# Altium schematic symbol library WE-PD2.SchLib: 114 symbols (part 1 of 2)
Pins are listed as number, name and electrical type; pins without a type are passive.

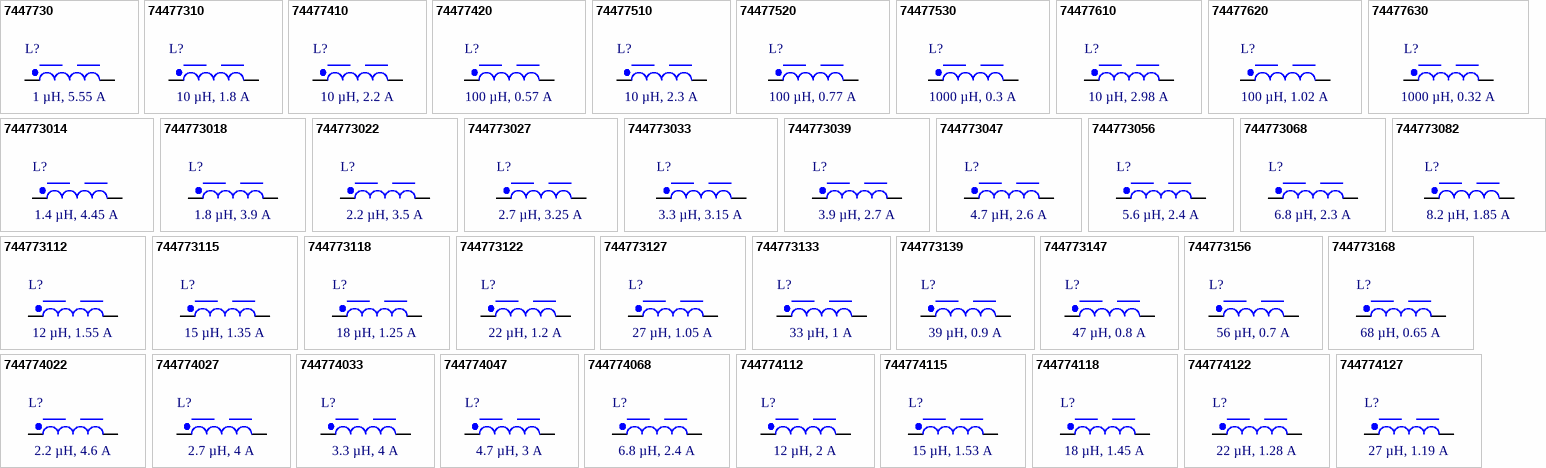
[diagram p0: symbols 7447730 to 744774127]

## 7447730
designator L?, comment 1 µH, 5.55 A
WE-PD2 SMT Power Inductor, size 4532, 1 µH, 5.55 A, 0.014 Ω; Manufacturer Part Number: 7447730; Manufacturer: Wurth Elektronik; Case/Size Code: 4532; DC Resistance Max: 0.014 Ω; Inductance: 1 µH; Rated Current: 5.55 A; Saturation Current @ 10%: 5.72 A; Saturation Current @ 30%: 6.6 A; Self Resonant Frequency: 110 MHz; Category: Power Inductors; Match Code: WE-PD2; ComponentLink1Description: Website Link; ComponentLink1URL: https://www.we-online.com/redexpert/article/7447730?ad; ComponentLink2Description: Datasheet Link; ComponentLink2URL: https://www.we-online.com/redexpert/spec/7447730?ad; Mount: Surface Mount; Min Operating Temperature: -40 °C; Max Operating Temperature: 125 °C; Packaging: Tape and Reel; Length: 4.5 mm; Width: 4 mm; Height: 3.2 mm
footprint WE-PD2_4532
simulation model 4532_7447730_1u
pins: 1, 2

## 74477310
designator L?, comment 10 µH, 1.8 A
WE-PD2 SMT Power Inductor, size 4532, 10 µH, 1.8 A, 0.118 Ω; Manufacturer Part Number: 74477310; Manufacturer: Wurth Elektronik; Case/Size Code: 4532; DC Resistance Max: 0.118 Ω; Inductance: 10 µH; Rated Current: 1.8 A; Saturation Current @ 10%: 1.74 A; Saturation Current @ 30%: 2 A; Self Resonant Frequency: 37 MHz; Category: Power Inductors; Match Code: WE-PD2; ComponentLink1Description: Website Link; ComponentLink1URL: https://www.we-online.com/redexpert/article/74477310?ad; ComponentLink2Description: Datasheet Link; ComponentLink2URL: https://www.we-online.com/redexpert/spec/74477310?ad; Mount: Surface Mount; Min Operating Temperature: -40 °C; Max Operating Temperature: 125 °C; Packaging: Tape and Reel; Length: 4.5 mm; Width: 4 mm; Height: 3.2 mm
footprint WE-PD2_4532
simulation model 4532_74477310_10u
pins: 1, 2

## 74477410
designator L?, comment 10 µH, 2.2 A
WE-PD2 SMT Power Inductor, size 5848, 10 µH, 2.2 A, 0.078 Ω; Manufacturer Part Number: 74477410; Manufacturer: Wurth Elektronik; Case/Size Code: 5848; DC Resistance Max: 0.078 Ω; Inductance: 10 µH; Rated Current: 2.2 A; Saturation Current @ 10%: 2.5 A; Self Resonant Frequency: 26 MHz; Category: Power Inductors; Match Code: WE-PD2; ComponentLink1Description: Website Link; ComponentLink1URL: https://www.we-online.com/redexpert/article/74477410?ad; ComponentLink2Description: Datasheet Link; ComponentLink2URL: https://www.we-online.com/redexpert/spec/74477410?ad; Mount: Surface Mount; Min Operating Temperature: -40 °C; Max Operating Temperature: 125 °C; Packaging: Tape and Reel; Length: 5.8 mm; Width: 5.2 mm; Height: 4.5 mm
footprint WE-PD2_5848
simulation model 5848_74477410_10u
pins: 1, 2

## 74477420
designator L?, comment 100 µH, 0.57 A
WE-PD2 SMT Power Inductor, size 5848, 100 µH, 0.57 A, 0.51 Ω; Manufacturer Part Number: 74477420; Manufacturer: Wurth Elektronik; Case/Size Code: 5848; DC Resistance Max: 0.51 Ω; Inductance: 100 µH; Rated Current: 0.57 A; Saturation Current @ 10%: 0.68 A; Self Resonant Frequency: 7.5 MHz; Category: Power Inductors; Match Code: WE-PD2; ComponentLink1Description: Website Link; ComponentLink1URL: https://www.we-online.com/redexpert/article/74477420?ad; ComponentLink2Description: Datasheet Link; ComponentLink2URL: https://www.we-online.com/redexpert/spec/74477420?ad; Mount: Surface Mount; Min Operating Temperature: -40 °C; Max Operating Temperature: 125 °C; Packaging: Tape and Reel; Length: 5.8 mm; Width: 5.2 mm; Height: 4.5 mm
footprint WE-PD2_5848
simulation model 5848_74477420_100u
pins: 1, 2

## 74477510
designator L?, comment 10 µH, 2.3 A
WE-PD2 SMT Power Inductor, size 7850, 10 µH, 2.3 A, 0.044 Ω; Manufacturer Part Number: 74477510; Manufacturer: Wurth Elektronik; Case/Size Code: 7850; DC Resistance Max: 0.044 Ω; Inductance: 10 µH; Rated Current: 2.3 A; Saturation Current @ 10%: 2.95 A; Self Resonant Frequency: 28 MHz; Category: Power Inductors; Match Code: WE-PD2; ComponentLink1Description: Website Link; ComponentLink1URL: https://www.we-online.com/redexpert/article/74477510?ad; ComponentLink2Description: Datasheet Link; ComponentLink2URL: https://www.we-online.com/redexpert/spec/74477510?ad; Mount: Surface Mount; Min Operating Temperature: -40 °C; Max Operating Temperature: 125 °C; Packaging: Tape and Reel; Length: 7.8 mm; Width: 7 mm; Height: 4.95 mm
footprint WE-PD2_7850
simulation model 7850_74477510_10u
pins: 1, 2

## 74477520
designator L?, comment 100 µH, 0.77 A
WE-PD2 SMT Power Inductor, size 7850, 100 µH, 0.77 A, 0.208 Ω; Manufacturer Part Number: 74477520; Manufacturer: Wurth Elektronik; Case/Size Code: 7850; DC Resistance Max: 0.208 Ω; Inductance: 100 µH; Rated Current: 0.77 A; Saturation Current @ 10%: 0.86 A; Self Resonant Frequency: 8 MHz; Category: Power Inductors; Match Code: WE-PD2; ComponentLink1Description: Website Link; ComponentLink1URL: https://www.we-online.com/redexpert/article/74477520?ad; ComponentLink2Description: Datasheet Link; ComponentLink2URL: https://www.we-online.com/redexpert/spec/74477520?ad; Mount: Surface Mount; Min Operating Temperature: -40 °C; Max Operating Temperature: 125 °C; Packaging: Tape and Reel; Length: 7.8 mm; Width: 7 mm; Height: 4.95 mm
footprint WE-PD2_7850
simulation model 7850_74477520_100u
pins: 1, 2

## 74477530
designator L?, comment 1000 µH, 0.3 A
WE-PD2 SMT Power Inductor, size 7850, 1000 µH, 0.3 A, 2.78 Ω; Manufacturer Part Number: 74477530; Manufacturer: Wurth Elektronik; Case/Size Code: 7850; DC Resistance Max: 2.78 Ω; Inductance: 1000 µH; Rated Current: 0.3 A; Self Resonant Frequency: 2.4 MHz; Category: Power Inductors; Match Code: WE-PD2; ComponentLink1Description: Website Link; ComponentLink1URL: https://www.we-online.com/redexpert/article/74477530?ad; ComponentLink2Description: Datasheet Link; ComponentLink2URL: https://www.we-online.com/redexpert/spec/74477530?ad; Mount: Surface Mount; Min Operating Temperature: -40 °C; Max Operating Temperature: 125 °C; Packaging: Tape and Reel; Length: 7.8 mm; Width: 7 mm; Height: 4.95 mm; Saturation Current @ 10%: 0.3 A
footprint WE-PD2_7850
simulation model 7850_74477530_1m
pins: 1, 2

## 74477610
designator L?, comment 10 µH, 2.98 A
WE-PD2 SMT Power Inductor, size 1054, 10 µH, 2.98 A, 0.028 Ω; Manufacturer Part Number: 74477610; Manufacturer: Wurth Elektronik; Case/Size Code: 1054; DC Resistance Max: 0.028 Ω; Inductance: 10 µH; Rated Current: 2.98 A; Saturation Current @ 10%: 3.24 A; Self Resonant Frequency: 24 MHz; Category: Power Inductors; Match Code: WE-PD2; ComponentLink1Description: Website Link; ComponentLink1URL: https://www.we-online.com/redexpert/article/74477610?ad; ComponentLink2Description: Datasheet Link; ComponentLink2URL: https://www.we-online.com/redexpert/spec/74477610?ad; Mount: Surface Mount; Min Operating Temperature: -40 °C; Max Operating Temperature: 125 °C; Packaging: Tape and Reel; Length: 10 mm; Width: 9 mm; Height: 5.4 mm
footprint WE-PD2_1054
simulation model 1054_74477610_10u
pins: 1, 2

## 74477620
designator L?, comment 100 µH, 1.02 A
WE-PD2 SMT Power Inductor, size 1054, 100 µH, 1.02 A, 0.2 Ω; Manufacturer Part Number: 74477620; Manufacturer: Wurth Elektronik; Case/Size Code: 1054; DC Resistance Max: 0.2 Ω; Inductance: 100 µH; Rated Current: 1.02 A; Saturation Current @ 10%: 1.1 A; Self Resonant Frequency: 7.5 MHz; Category: Power Inductors; Match Code: WE-PD2; ComponentLink1Description: Website Link; ComponentLink1URL: https://www.we-online.com/redexpert/article/74477620?ad; ComponentLink2Description: Datasheet Link; ComponentLink2URL: https://www.we-online.com/redexpert/spec/74477620?ad; Mount: Surface Mount; Min Operating Temperature: -40 °C; Max Operating Temperature: 125 °C; Packaging: Tape and Reel; Length: 10 mm; Width: 9 mm; Height: 5.4 mm
footprint WE-PD2_1054
simulation model 1054_74477620_100u
pins: 1, 2

## 74477630
designator L?, comment 1000 µH, 0.32 A
WE-PD2 SMT Power Inductor, size 1054, 1000 µH, 0.32 A, 2.2 Ω; Manufacturer Part Number: 74477630; Manufacturer: Wurth Elektronik; Case/Size Code: 1054; DC Resistance Max: 2.2 Ω; Inductance: 1000 µH; Rated Current: 0.32 A; Saturation Current @ 10%: 0.38 A; Self Resonant Frequency: 2.3 MHz; Category: Power Inductors; Match Code: WE-PD2; ComponentLink1Description: Website Link; ComponentLink1URL: https://www.we-online.com/redexpert/article/74477630?ad; ComponentLink2Description: Datasheet Link; ComponentLink2URL: https://www.we-online.com/redexpert/spec/74477630?ad; Mount: Surface Mount; Min Operating Temperature: -40 °C; Max Operating Temperature: 125 °C; Packaging: Tape and Reel; Length: 10 mm; Width: 9 mm; Height: 5.4 mm
footprint WE-PD2_1054
simulation model 1054_74477630_1m
pins: 1, 2

## 744773014
designator L?, comment 1.4 µH, 4.45 A
WE-PD2 SMT Power Inductor, size 4532, 1.4 µH, 4.45 A, 0.022 Ω; Manufacturer Part Number: 744773014; Manufacturer: Wurth Elektronik; Case/Size Code: 4532; DC Resistance Max: 0.022 Ω; Inductance: 1.4 µH; Rated Current: 4.45 A; Saturation Current @ 10%: 5.04 A; Saturation Current @ 30%: 5.8 A; Self Resonant Frequency: 103 MHz; Category: Power Inductors; Match Code: WE-PD2; ComponentLink1Description: Website Link; ComponentLink1URL: https://www.we-online.com/redexpert/article/744773014?ad; ComponentLink2Description: Datasheet Link; ComponentLink2URL: https://www.we-online.com/redexpert/spec/744773014?ad; Mount: Surface Mount; Min Operating Temperature: -40 °C; Max Operating Temperature: 125 °C; Packaging: Tape and Reel; Length: 4.5 mm; Width: 4 mm; Height: 3.2 mm
footprint WE-PD2_4532
simulation model 4532_744773014_1.4u
pins: 1, 2

## 744773018
designator L?, comment 1.8 µH, 3.9 A
WE-PD2 SMT Power Inductor, size 4532, 1.8 µH, 3.9 A, 0.028 Ω; Manufacturer Part Number: 744773018; Manufacturer: Wurth Elektronik; Case/Size Code: 4532; DC Resistance Max: 0.028 Ω; Inductance: 1.8 µH; Rated Current: 3.9 A; Saturation Current @ 10%: 4.4 A; Saturation Current @ 30%: 5.1 A; Self Resonant Frequency: 95 MHz; Category: Power Inductors; Match Code: WE-PD2; ComponentLink1Description: Website Link; ComponentLink1URL: https://www.we-online.com/redexpert/article/744773018?ad; ComponentLink2Description: Datasheet Link; ComponentLink2URL: https://www.we-online.com/redexpert/spec/744773018?ad; Mount: Surface Mount; Min Operating Temperature: -40 °C; Max Operating Temperature: 125 °C; Packaging: Tape and Reel; Length: 4.5 mm; Width: 4 mm; Height: 3.2 mm
footprint WE-PD2_4532
simulation model 4532_744773018_1.8u
pins: 1, 2

## 744773022
designator L?, comment 2.2 µH, 3.5 A
WE-PD2 SMT Power Inductor, size 4532, 2.2 µH, 3.5 A, 0.034 Ω; Manufacturer Part Number: 744773022; Manufacturer: Wurth Elektronik; Case/Size Code: 4532; DC Resistance Max: 0.034 Ω; Inductance: 2.2 µH; Rated Current: 3.5 A; Saturation Current @ 10%: 4.1 A; Saturation Current @ 30%: 4.7 A; Self Resonant Frequency: 85 MHz; Category: Power Inductors; Match Code: WE-PD2; ComponentLink1Description: Website Link; ComponentLink1URL: https://www.we-online.com/redexpert/article/744773022?ad; ComponentLink2Description: Datasheet Link; ComponentLink2URL: https://www.we-online.com/redexpert/spec/744773022?ad; Mount: Surface Mount; Min Operating Temperature: -40 °C; Max Operating Temperature: 125 °C; Packaging: Tape and Reel; Length: 4.5 mm; Width: 4 mm; Height: 3.2 mm
footprint WE-PD2_4532
simulation model 4532_744773022_2.2u
pins: 1, 2

## 744773027
designator L?, comment 2.7 µH, 3.25 A
WE-PD2 SMT Power Inductor, size 4532, 2.7 µH, 3.25 A, 0.039 Ω; Manufacturer Part Number: 744773027; Manufacturer: Wurth Elektronik; Case/Size Code: 4532; DC Resistance Max: 0.039 Ω; Inductance: 2.7 µH; Rated Current: 3.25 A; Saturation Current @ 10%: 3.5 A; Saturation Current @ 30%: 4.05 A; Self Resonant Frequency: 72 MHz; Category: Power Inductors; Match Code: WE-PD2; ComponentLink1Description: Website Link; ComponentLink1URL: https://www.we-online.com/redexpert/article/744773027?ad; ComponentLink2Description: Datasheet Link; ComponentLink2URL: https://www.we-online.com/redexpert/spec/744773027?ad; Mount: Surface Mount; Min Operating Temperature: -40 °C; Max Operating Temperature: 125 °C; Packaging: Tape and Reel; Length: 4.5 mm; Width: 4 mm; Height: 3.2 mm
footprint WE-PD2_4532
simulation model 4532_744773027_2.7u
pins: 1, 2

## 744773033
designator L?, comment 3.3 µH, 3.15 A
WE-PD2 SMT Power Inductor, size 4532, 3.3 µH, 3.15 A, 0.041 Ω; Manufacturer Part Number: 744773033; Manufacturer: Wurth Elektronik; Case/Size Code: 4532; DC Resistance Max: 0.041 Ω; Inductance: 3.3 µH; Rated Current: 3.15 A; Saturation Current @ 10%: 3.3 A; Saturation Current @ 30%: 3.8 A; Self Resonant Frequency: 65 MHz; Category: Power Inductors; Match Code: WE-PD2; ComponentLink1Description: Website Link; ComponentLink1URL: https://www.we-online.com/redexpert/article/744773033?ad; ComponentLink2Description: Datasheet Link; ComponentLink2URL: https://www.we-online.com/redexpert/spec/744773033?ad; Mount: Surface Mount; Min Operating Temperature: -40 °C; Max Operating Temperature: 125 °C; Packaging: Tape and Reel; Length: 4.5 mm; Width: 4 mm; Height: 3.2 mm
footprint WE-PD2_4532
simulation model 4532_744773033_3.3u
pins: 1, 2

## 744773039
designator L?, comment 3.9 µH, 2.7 A
WE-PD2 SMT Power Inductor, size 4532, 3.9 µH, 2.7 A, 0.054 Ω; Manufacturer Part Number: 744773039; Manufacturer: Wurth Elektronik; Case/Size Code: 4532; DC Resistance Max: 0.054 Ω; Inductance: 3.9 µH; Rated Current: 2.7 A; Saturation Current @ 10%: 3.1 A; Saturation Current @ 30%: 3.55 A; Self Resonant Frequency: 61 MHz; Category: Power Inductors; Match Code: WE-PD2; ComponentLink1Description: Website Link; ComponentLink1URL: https://www.we-online.com/redexpert/article/744773039?ad; ComponentLink2Description: Datasheet Link; ComponentLink2URL: https://www.we-online.com/redexpert/spec/744773039?ad; Mount: Surface Mount; Min Operating Temperature: -40 °C; Max Operating Temperature: 125 °C; Packaging: Tape and Reel; Length: 4.5 mm; Width: 4 mm; Height: 3.2 mm
footprint WE-PD2_4532
simulation model 4532_744773039_3.9u
pins: 1, 2

## 744773047
designator L?, comment 4.7 µH, 2.6 A
WE-PD2 SMT Power Inductor, size 4532, 4.7 µH, 2.6 A, 0.059 Ω; Manufacturer Part Number: 744773047; Manufacturer: Wurth Elektronik; Case/Size Code: 4532; DC Resistance Max: 0.059 Ω; Inductance: 4.7 µH; Rated Current: 2.6 A; Saturation Current @ 10%: 2.9 A; Saturation Current @ 30%: 3.3 A; Self Resonant Frequency: 50 MHz; Category: Power Inductors; Match Code: WE-PD2; ComponentLink1Description: Website Link; ComponentLink1URL: https://www.we-online.com/redexpert/article/744773047?ad; ComponentLink2Description: Datasheet Link; ComponentLink2URL: https://www.we-online.com/redexpert/spec/744773047?ad; Mount: Surface Mount; Min Operating Temperature: -40 °C; Max Operating Temperature: 125 °C; Packaging: Tape and Reel; Length: 4.5 mm; Width: 4 mm; Height: 3.2 mm
footprint WE-PD2_4532
simulation model 4532_744773047_4.7u
pins: 1, 2

## 744773056
designator L?, comment 5.6 µH, 2.4 A
WE-PD2 SMT Power Inductor, size 4532, 5.6 µH, 2.4 A, 0.069 Ω; Manufacturer Part Number: 744773056; Manufacturer: Wurth Elektronik; Case/Size Code: 4532; DC Resistance Max: 0.069 Ω; Inductance: 5.6 µH; Rated Current: 2.4 A; Saturation Current @ 10%: 2.43 A; Saturation Current @ 30%: 2.8 A; Self Resonant Frequency: 48 MHz; Category: Power Inductors; Match Code: WE-PD2; ComponentLink1Description: Website Link; ComponentLink1URL: https://www.we-online.com/redexpert/article/744773056?ad; ComponentLink2Description: Datasheet Link; ComponentLink2URL: https://www.we-online.com/redexpert/spec/744773056?ad; Mount: Surface Mount; Min Operating Temperature: -40 °C; Max Operating Temperature: 125 °C; Packaging: Tape and Reel; Length: 4.5 mm; Width: 4 mm; Height: 3.2 mm
footprint WE-PD2_4532
simulation model 4532_744773056_5.6u
pins: 1, 2

## 744773068
designator L?, comment 6.8 µH, 2.3 A
WE-PD2 SMT Power Inductor, size 4532, 6.8 µH, 2.3 A, 0.076 Ω; Manufacturer Part Number: 744773068; Manufacturer: Wurth Elektronik; Case/Size Code: 4532; DC Resistance Max: 0.076 Ω; Inductance: 6.8 µH; Rated Current: 2.3 A; Saturation Current @ 10%: 2.1 A; Saturation Current @ 30%: 2.4 A; Self Resonant Frequency: 41 MHz; Category: Power Inductors; Match Code: WE-PD2; ComponentLink1Description: Website Link; ComponentLink1URL: https://www.we-online.com/redexpert/article/744773068?ad; ComponentLink2Description: Datasheet Link; ComponentLink2URL: https://www.we-online.com/redexpert/spec/744773068?ad; Mount: Surface Mount; Min Operating Temperature: -40 °C; Max Operating Temperature: 125 °C; Packaging: Tape and Reel; Length: 4.5 mm; Width: 4 mm; Height: 3.2 mm
footprint WE-PD2_4532
simulation model 4532_744773068_6.8u
pins: 1, 2

## 744773082
designator L?, comment 8.2 µH, 1.85 A
WE-PD2 SMT Power Inductor, size 4532, 8.2 µH, 1.85 A, 0.116 Ω; Manufacturer Part Number: 744773082; Manufacturer: Wurth Elektronik; Case/Size Code: 4532; DC Resistance Max: 0.116 Ω; Inductance: 8.2 µH; Rated Current: 1.85 A; Saturation Current @ 10%: 1.8 A; Saturation Current @ 30%: 2.08 A; Self Resonant Frequency: 38 MHz; Category: Power Inductors; Match Code: WE-PD2; ComponentLink1Description: Website Link; ComponentLink1URL: https://www.we-online.com/redexpert/article/744773082?ad; ComponentLink2Description: Datasheet Link; ComponentLink2URL: https://www.we-online.com/redexpert/spec/744773082?ad; Mount: Surface Mount; Min Operating Temperature: -40 °C; Max Operating Temperature: 125 °C; Packaging: Tape and Reel; Length: 4.5 mm; Width: 4 mm; Height: 3.2 mm
footprint WE-PD2_4532
simulation model 4532_744773082_8.2u
pins: 1, 2

## 744773112
designator L?, comment 12 µH, 1.55 A
WE-PD2 SMT Power Inductor, size 4532, 12 µH, 1.55 A, 0.156 Ω; Manufacturer Part Number: 744773112; Manufacturer: Wurth Elektronik; Case/Size Code: 4532; DC Resistance Max: 0.156 Ω; Inductance: 12 µH; Rated Current: 1.55 A; Saturation Current @ 10%: 1.62 A; Saturation Current @ 30%: 1.85 A; Self Resonant Frequency: 32 MHz; Category: Power Inductors; Match Code: WE-PD2; ComponentLink1Description: Website Link; ComponentLink1URL: https://www.we-online.com/redexpert/article/744773112?ad; ComponentLink2Description: Datasheet Link; ComponentLink2URL: https://www.we-online.com/redexpert/spec/744773112?ad; Mount: Surface Mount; Min Operating Temperature: -40 °C; Max Operating Temperature: 125 °C; Packaging: Tape and Reel; Length: 4.5 mm; Width: 4 mm; Height: 3.2 mm
footprint WE-PD2_4532
simulation model 4532_744773112_12u
pins: 1, 2

## 744773115
designator L?, comment 15 µH, 1.35 A
WE-PD2 SMT Power Inductor, size 4532, 15 µH, 1.35 A, 0.204 Ω; Manufacturer Part Number: 744773115; Manufacturer: Wurth Elektronik; Case/Size Code: 4532; DC Resistance Max: 0.204 Ω; Inductance: 15 µH; Rated Current: 1.35 A; Saturation Current @ 10%: 1.46 A; Saturation Current @ 30%: 1.65 A; Self Resonant Frequency: 26 MHz; Category: Power Inductors; Match Code: WE-PD2; ComponentLink1Description: Website Link; ComponentLink1URL: https://www.we-online.com/redexpert/article/744773115?ad; ComponentLink2Description: Datasheet Link; ComponentLink2URL: https://www.we-online.com/redexpert/spec/744773115?ad; Mount: Surface Mount; Min Operating Temperature: -40 °C; Max Operating Temperature: 125 °C; Packaging: Tape and Reel; Length: 4.5 mm; Width: 4 mm; Height: 3.2 mm
footprint WE-PD2_4532
simulation model 4532_744773115_15u
pins: 1, 2

## 744773118
designator L?, comment 18 µH, 1.25 A
WE-PD2 SMT Power Inductor, size 4532, 18 µH, 1.25 A, 0.225 Ω; Manufacturer Part Number: 744773118; Manufacturer: Wurth Elektronik; Case/Size Code: 4532; DC Resistance Max: 0.225 Ω; Inductance: 18 µH; Rated Current: 1.25 A; Saturation Current @ 10%: 1.29 A; Saturation Current @ 30%: 1.49 A; Self Resonant Frequency: 23 MHz; Category: Power Inductors; Match Code: WE-PD2; ComponentLink1Description: Website Link; ComponentLink1URL: https://www.we-online.com/redexpert/article/744773118?ad; ComponentLink2Description: Datasheet Link; ComponentLink2URL: https://www.we-online.com/redexpert/spec/744773118?ad; Mount: Surface Mount; Min Operating Temperature: -40 °C; Max Operating Temperature: 125 °C; Packaging: Tape and Reel; Length: 4.5 mm; Width: 4 mm; Height: 3.2 mm
footprint WE-PD2_4532
simulation model 4532_744773118_18u
pins: 1, 2

## 744773122
designator L?, comment 22 µH, 1.2 A
WE-PD2 SMT Power Inductor, size 4532, 22 µH, 1.2 A, 0.261 Ω; Manufacturer Part Number: 744773122; Manufacturer: Wurth Elektronik; Case/Size Code: 4532; DC Resistance Max: 0.261 Ω; Inductance: 22 µH; Rated Current: 1.2 A; Saturation Current @ 10%: 1.22 A; Saturation Current @ 30%: 1.42 A; Self Resonant Frequency: 20 MHz; Category: Power Inductors; Match Code: WE-PD2; ComponentLink1Description: Website Link; ComponentLink1URL: https://www.we-online.com/redexpert/article/744773122?ad; ComponentLink2Description: Datasheet Link; ComponentLink2URL: https://www.we-online.com/redexpert/spec/744773122?ad; Mount: Surface Mount; Min Operating Temperature: -40 °C; Max Operating Temperature: 125 °C; Packaging: Tape and Reel; Length: 4.5 mm; Width: 4 mm; Height: 3.2 mm
footprint WE-PD2_4532
simulation model 4532_744773122_22u
pins: 1, 2

## 744773127
designator L?, comment 27 µH, 1.05 A
WE-PD2 SMT Power Inductor, size 4532, 27 µH, 1.05 A, 0.328 Ω; Manufacturer Part Number: 744773127; Manufacturer: Wurth Elektronik; Case/Size Code: 4532; DC Resistance Max: 0.328 Ω; Inductance: 27 µH; Rated Current: 1.05 A; Saturation Current @ 10%: 1.15 A; Saturation Current @ 30%: 1.32 A; Self Resonant Frequency: 21 MHz; Category: Power Inductors; Match Code: WE-PD2; ComponentLink1Description: Website Link; ComponentLink1URL: https://www.we-online.com/redexpert/article/744773127?ad; ComponentLink2Description: Datasheet Link; ComponentLink2URL: https://www.we-online.com/redexpert/spec/744773127?ad; Mount: Surface Mount; Min Operating Temperature: -40 °C; Max Operating Temperature: 125 °C; Packaging: Tape and Reel; Length: 4.5 mm; Width: 4 mm; Height: 3.2 mm
footprint WE-PD2_4532
simulation model 4532_744773127_27u
pins: 1, 2

## 744773133
designator L?, comment 33 µH, 1 A
WE-PD2 SMT Power Inductor, size 4532, 33 µH, 1 A, 0.37 Ω; Manufacturer Part Number: 744773133; Manufacturer: Wurth Elektronik; Case/Size Code: 4532; DC Resistance Max: 0.37 Ω; Inductance: 33 µH; Rated Current: 1 A; Saturation Current @ 10%: 1.1 A; Saturation Current @ 30%: 1.26 A; Self Resonant Frequency: 20 MHz; Category: Power Inductors; Match Code: WE-PD2; ComponentLink1Description: Website Link; ComponentLink1URL: https://www.we-online.com/redexpert/article/744773133?ad; ComponentLink2Description: Datasheet Link; ComponentLink2URL: https://www.we-online.com/redexpert/spec/744773133?ad; Mount: Surface Mount; Min Operating Temperature: -40 °C; Max Operating Temperature: 125 °C; Packaging: Tape and Reel; Length: 4.5 mm; Width: 4 mm; Height: 3.2 mm
footprint WE-PD2_4532
simulation model 4532_744773133_33u
pins: 1, 2

## 744773139
designator L?, comment 39 µH, 0.9 A
WE-PD2 SMT Power Inductor, size 4532, 39 µH, 0.9 A, 0.418 Ω; Manufacturer Part Number: 744773139; Manufacturer: Wurth Elektronik; Case/Size Code: 4532; DC Resistance Max: 0.418 Ω; Inductance: 39 µH; Rated Current: 0.9 A; Saturation Current @ 10%: 0.95 A; Saturation Current @ 30%: 1.1 A; Self Resonant Frequency: 15 MHz; Category: Power Inductors; Match Code: WE-PD2; ComponentLink1Description: Website Link; ComponentLink1URL: https://www.we-online.com/redexpert/article/744773139?ad; ComponentLink2Description: Datasheet Link; ComponentLink2URL: https://www.we-online.com/redexpert/spec/744773139?ad; Mount: Surface Mount; Min Operating Temperature: -40 °C; Max Operating Temperature: 125 °C; Packaging: Tape and Reel; Length: 4.5 mm; Width: 4 mm; Height: 3.2 mm
footprint WE-PD2_4532
simulation model 4532_744773139_39u
pins: 1, 2

## 744773147
designator L?, comment 47 µH, 0.8 A
WE-PD2 SMT Power Inductor, size 4532, 47 µH, 0.8 A, 0.523 Ω; Manufacturer Part Number: 744773147; Manufacturer: Wurth Elektronik; Case/Size Code: 4532; DC Resistance Max: 0.523 Ω; Inductance: 47 µH; Rated Current: 0.8 A; Saturation Current @ 10%: 0.85 A; Saturation Current @ 30%: 0.98 A; Self Resonant Frequency: 17 MHz; Category: Power Inductors; Match Code: WE-PD2; ComponentLink1Description: Website Link; ComponentLink1URL: https://www.we-online.com/redexpert/article/744773147?ad; ComponentLink2Description: Datasheet Link; ComponentLink2URL: https://www.we-online.com/redexpert/spec/744773147?ad; Mount: Surface Mount; Min Operating Temperature: -40 °C; Max Operating Temperature: 125 °C; Packaging: Tape and Reel; Length: 4.5 mm; Width: 4 mm; Height: 3.2 mm
footprint WE-PD2_4532
simulation model 4532_744773147_47u
pins: 1, 2

## 744773156
designator L?, comment 56 µH, 0.7 A
WE-PD2 SMT Power Inductor, size 4532, 56 µH, 0.7 A, 0.714 Ω; Manufacturer Part Number: 744773156; Manufacturer: Wurth Elektronik; Case/Size Code: 4532; DC Resistance Max: 0.714 Ω; Inductance: 56 µH; Rated Current: 0.7 A; Saturation Current @ 10%: 0.82 A; Saturation Current @ 30%: 0.94 A; Self Resonant Frequency: 16 MHz; Category: Power Inductors; Match Code: WE-PD2; ComponentLink1Description: Website Link; ComponentLink1URL: https://www.we-online.com/redexpert/article/744773156?ad; ComponentLink2Description: Datasheet Link; ComponentLink2URL: https://www.we-online.com/redexpert/spec/744773156?ad; Mount: Surface Mount; Min Operating Temperature: -40 °C; Max Operating Temperature: 125 °C; Packaging: Tape and Reel; Length: 4.5 mm; Width: 4 mm; Height: 3.2 mm
footprint WE-PD2_4532
simulation model 4532_744773156_56u
pins: 1, 2

## 744773168
designator L?, comment 68 µH, 0.65 A
WE-PD2 SMT Power Inductor, size 4532, 68 µH, 0.65 A, 0.754 Ω; Manufacturer Part Number: 744773168; Manufacturer: Wurth Elektronik; Case/Size Code: 4532; DC Resistance Max: 0.754 Ω; Inductance: 68 µH; Rated Current: 0.65 A; Saturation Current @ 10%: 0.75 A; Saturation Current @ 30%: 0.86 A; Self Resonant Frequency: 13 MHz; Category: Power Inductors; Match Code: WE-PD2; ComponentLink1Description: Website Link; ComponentLink1URL: https://www.we-online.com/redexpert/article/744773168?ad; ComponentLink2Description: Datasheet Link; ComponentLink2URL: https://www.we-online.com/redexpert/spec/744773168?ad; Mount: Surface Mount; Min Operating Temperature: -40 °C; Max Operating Temperature: 125 °C; Packaging: Tape and Reel; Length: 4.5 mm; Width: 4 mm; Height: 3.2 mm
footprint WE-PD2_4532
simulation model 4532_744773168_68u
pins: 1, 2

## 744774022
designator L?, comment 2.2 µH, 4.6 A
WE-PD2 SMT Power Inductor, size 5848, 2.2 µH, 4.6 A, 0.026 Ω; Manufacturer Part Number: 744774022; Manufacturer: Wurth Elektronik; Case/Size Code: 5848; DC Resistance Max: 0.026 Ω; Inductance: 2.2 µH; Rated Current: 4.6 A; Saturation Current @ 10%: 8.2 A; Self Resonant Frequency: 54 MHz; Category: Power Inductors; Match Code: WE-PD2; ComponentLink1Description: Website Link; ComponentLink1URL: https://www.we-online.com/redexpert/article/744774022?ad; ComponentLink2Description: Datasheet Link; ComponentLink2URL: https://www.we-online.com/redexpert/spec/744774022?ad; Mount: Surface Mount; Min Operating Temperature: -40 °C; Max Operating Temperature: 125 °C; Packaging: Tape and Reel; Length: 5.8 mm; Width: 5.2 mm; Height: 4.5 mm
footprint WE-PD2_5848
simulation model 5848_744774022_2.2u
pins: 1, 2

## 744774027
designator L?, comment 2.7 µH, 4 A
WE-PD2 SMT Power Inductor, size 5848, 2.7 µH, 4 A, 0.032 Ω; Manufacturer Part Number: 744774027; Manufacturer: Wurth Elektronik; Case/Size Code: 5848; DC Resistance Max: 0.032 Ω; Inductance: 2.7 µH; Rated Current: 4 A; Saturation Current @ 10%: 8 A; Self Resonant Frequency: 50 MHz; Category: Power Inductors; Match Code: WE-PD2; ComponentLink1Description: Website Link; ComponentLink1URL: https://www.we-online.com/redexpert/article/744774027?ad; ComponentLink2Description: Datasheet Link; ComponentLink2URL: https://www.we-online.com/redexpert/spec/744774027?ad; Mount: Surface Mount; Min Operating Temperature: -40 °C; Max Operating Temperature: 125 °C; Packaging: Tape and Reel; Length: 5.8 mm; Width: 5.2 mm; Height: 4.5 mm
footprint WE-PD2_5848
simulation model 5848_744774027_2.7u
pins: 1, 2

## 744774033
designator L?, comment 3.3 µH, 4 A
WE-PD2 SMT Power Inductor, size 5848, 3.3 µH, 4 A, 0.042 Ω; Manufacturer Part Number: 744774033; Manufacturer: Wurth Elektronik; Case/Size Code: 5848; DC Resistance Max: 0.042 Ω; Inductance: 3.3 µH; Rated Current: 4 A; Saturation Current @ 10%: 7.5 A; Self Resonant Frequency: 43 MHz; Category: Power Inductors; Match Code: WE-PD2; ComponentLink1Description: Website Link; ComponentLink1URL: https://www.we-online.com/redexpert/article/744774033?ad; ComponentLink2Description: Datasheet Link; ComponentLink2URL: https://www.we-online.com/redexpert/spec/744774033?ad; Mount: Surface Mount; Min Operating Temperature: -40 °C; Max Operating Temperature: 125 °C; Packaging: Tape and Reel; Length: 5.8 mm; Width: 5.2 mm; Height: 4.5 mm
footprint WE-PD2_5848
simulation model 5848_744774033_3.3u
pins: 1, 2

## 744774047
designator L?, comment 4.7 µH, 3 A
WE-PD2 SMT Power Inductor, size 5848, 4.7 µH, 3 A, 0.056 Ω; Manufacturer Part Number: 744774047; Manufacturer: Wurth Elektronik; Case/Size Code: 5848; DC Resistance Max: 0.056 Ω; Inductance: 4.7 µH; Rated Current: 3 A; Saturation Current @ 10%: 5.5 A; Self Resonant Frequency: 33 MHz; Category: Power Inductors; Match Code: WE-PD2; ComponentLink1Description: Website Link; ComponentLink1URL: https://www.we-online.com/redexpert/article/744774047?ad; ComponentLink2Description: Datasheet Link; ComponentLink2URL: https://www.we-online.com/redexpert/spec/744774047?ad; Mount: Surface Mount; Min Operating Temperature: -40 °C; Max Operating Temperature: 125 °C; Packaging: Tape and Reel; Length: 5.8 mm; Width: 5.2 mm; Height: 4.5 mm
footprint WE-PD2_5848
simulation model 5848_744774047_4.7u
pins: 1, 2

## 744774068
designator L?, comment 6.8 µH, 2.4 A
WE-PD2 SMT Power Inductor, size 5848, 6.8 µH, 2.4 A, 0.071 Ω; Manufacturer Part Number: 744774068; Manufacturer: Wurth Elektronik; Case/Size Code: 5848; DC Resistance Max: 0.071 Ω; Inductance: 6.8 µH; Rated Current: 2.4 A; Saturation Current @ 10%: 5 A; Self Resonant Frequency: 28 MHz; Category: Power Inductors; Match Code: WE-PD2; ComponentLink1Description: Website Link; ComponentLink1URL: https://www.we-online.com/redexpert/article/744774068?ad; ComponentLink2Description: Datasheet Link; ComponentLink2URL: https://www.we-online.com/redexpert/spec/744774068?ad; Mount: Surface Mount; Min Operating Temperature: -40 °C; Max Operating Temperature: 125 °C; Packaging: Tape and Reel; Length: 5.8 mm; Width: 5.2 mm; Height: 4.5 mm
footprint WE-PD2_5848
simulation model 5848_744774068_6.8u
pins: 1, 2

## 744774112
designator L?, comment 12 µH, 2 A
WE-PD2 SMT Power Inductor, size 5848, 12 µH, 2 A, 0.082 Ω; Manufacturer Part Number: 744774112; Manufacturer: Wurth Elektronik; Case/Size Code: 5848; DC Resistance Max: 0.082 Ω; Inductance: 12 µH; Rated Current: 2 A; Saturation Current @ 10%: 1.94 A; Self Resonant Frequency: 24 MHz; Category: Power Inductors; Match Code: WE-PD2; ComponentLink1Description: Website Link; ComponentLink1URL: https://www.we-online.com/redexpert/article/744774112?ad; ComponentLink2Description: Datasheet Link; ComponentLink2URL: https://www.we-online.com/redexpert/spec/744774112?ad; Mount: Surface Mount; Min Operating Temperature: -40 °C; Max Operating Temperature: 125 °C; Packaging: Tape and Reel; Length: 5.8 mm; Width: 5.2 mm; Height: 4.5 mm
footprint WE-PD2_5848
simulation model 5848_744774112_12u
pins: 1, 2

## 744774115
designator L?, comment 15 µH, 1.53 A
WE-PD2 SMT Power Inductor, size 5848, 15 µH, 1.53 A, 0.089 Ω; Manufacturer Part Number: 744774115; Manufacturer: Wurth Elektronik; Case/Size Code: 5848; DC Resistance Max: 0.089 Ω; Inductance: 15 µH; Rated Current: 1.53 A; Saturation Current @ 10%: 1.9 A; Self Resonant Frequency: 23 MHz; Category: Power Inductors; Match Code: WE-PD2; ComponentLink1Description: Website Link; ComponentLink1URL: https://www.we-online.com/redexpert/article/744774115?ad; ComponentLink2Description: Datasheet Link; ComponentLink2URL: https://www.we-online.com/redexpert/spec/744774115?ad; Mount: Surface Mount; Min Operating Temperature: -40 °C; Max Operating Temperature: 125 °C; Packaging: Tape and Reel; Length: 5.8 mm; Width: 5.2 mm; Height: 4.5 mm
footprint WE-PD2_5848
simulation model 5848_744774115_15u
pins: 1, 2

## 744774118
designator L?, comment 18 µH, 1.45 A
WE-PD2 SMT Power Inductor, size 5848, 18 µH, 1.45 A, 0.104 Ω; Manufacturer Part Number: 744774118; Manufacturer: Wurth Elektronik; Case/Size Code: 5848; DC Resistance Max: 0.104 Ω; Inductance: 18 µH; Rated Current: 1.45 A; Saturation Current @ 10%: 1.69 A; Self Resonant Frequency: 21 MHz; Category: Power Inductors; Match Code: WE-PD2; ComponentLink1Description: Website Link; ComponentLink1URL: https://www.we-online.com/redexpert/article/744774118?ad; ComponentLink2Description: Datasheet Link; ComponentLink2URL: https://www.we-online.com/redexpert/spec/744774118?ad; Mount: Surface Mount; Min Operating Temperature: -40 °C; Max Operating Temperature: 125 °C; Packaging: Tape and Reel; Length: 5.8 mm; Width: 5.2 mm; Height: 4.5 mm
footprint WE-PD2_5848
simulation model 5848_744774118_18u
pins: 1, 2

## 744774122
designator L?, comment 22 µH, 1.28 A
WE-PD2 SMT Power Inductor, size 5848, 22 µH, 1.28 A, 0.109 Ω; Manufacturer Part Number: 744774122; Manufacturer: Wurth Elektronik; Case/Size Code: 5848; DC Resistance Max: 0.109 Ω; Inductance: 22 µH; Rated Current: 1.28 A; Saturation Current @ 10%: 1.53 A; Self Resonant Frequency: 16 MHz; Category: Power Inductors; Match Code: WE-PD2; ComponentLink1Description: Website Link; ComponentLink1URL: https://www.we-online.com/redexpert/article/744774122?ad; ComponentLink2Description: Datasheet Link; ComponentLink2URL: https://www.we-online.com/redexpert/spec/744774122?ad; Mount: Surface Mount; Min Operating Temperature: -40 °C; Max Operating Temperature: 125 °C; Packaging: Tape and Reel; Length: 5.8 mm; Width: 5.2 mm; Height: 4.5 mm
footprint WE-PD2_5848
simulation model 5848_744774122_22u
pins: 1, 2

## 744774127
designator L?, comment 27 µH, 1.19 A
WE-PD2 SMT Power Inductor, size 5848, 27 µH, 1.19 A, 0.133 Ω; Manufacturer Part Number: 744774127; Manufacturer: Wurth Elektronik; Case/Size Code: 5848; DC Resistance Max: 0.133 Ω; Inductance: 27 µH; Rated Current: 1.19 A; Saturation Current @ 10%: 1.4 A; Self Resonant Frequency: 15 MHz; Category: Power Inductors; Match Code: WE-PD2; ComponentLink1Description: Website Link; ComponentLink1URL: https://www.we-online.com/redexpert/article/744774127?ad; ComponentLink2Description: Datasheet Link; ComponentLink2URL: https://www.we-online.com/redexpert/spec/744774127?ad; Mount: Surface Mount; Min Operating Temperature: -40 °C; Max Operating Temperature: 125 °C; Packaging: Tape and Reel; Length: 5.8 mm; Width: 5.2 mm; Height: 4.5 mm
footprint WE-PD2_5848
simulation model 5848_744774127_27u
pins: 1, 2

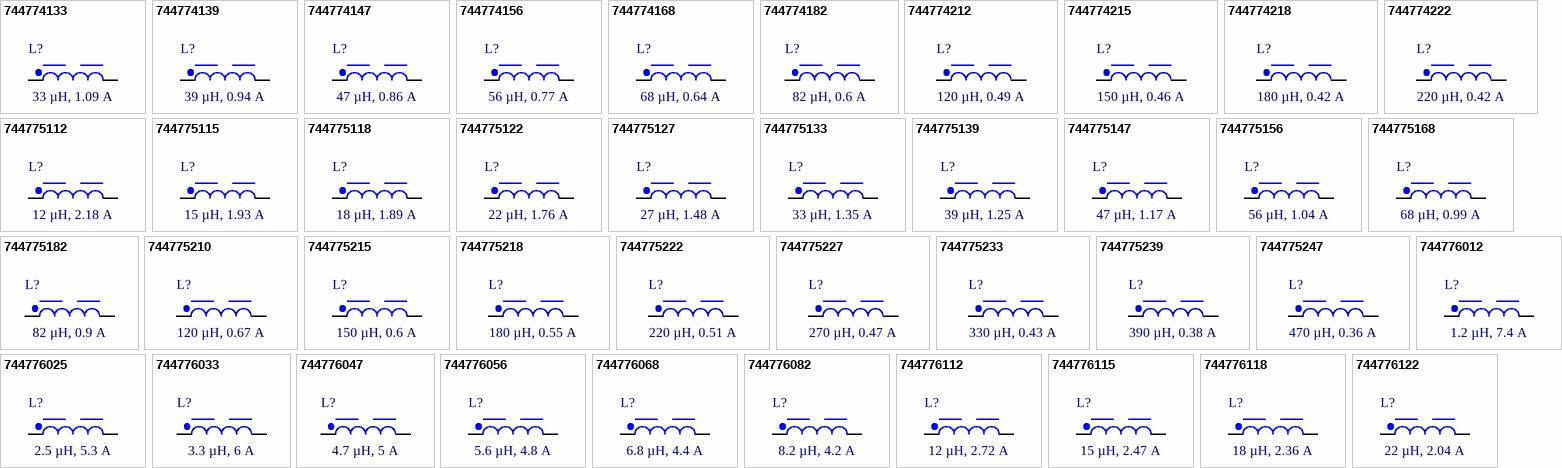
[diagram p1: symbols 744774133 to 744776122]

## 744774133
designator L?, comment 33 µH, 1.09 A
WE-PD2 SMT Power Inductor, size 5848, 33 µH, 1.09 A, 0.15 Ω; Manufacturer Part Number: 744774133; Manufacturer: Wurth Elektronik; Case/Size Code: 5848; DC Resistance Max: 0.15 Ω; Inductance: 33 µH; Rated Current: 1.09 A; Saturation Current @ 10%: 1.17 A; Self Resonant Frequency: 14 MHz; Category: Power Inductors; Match Code: WE-PD2; ComponentLink1Description: Website Link; ComponentLink1URL: https://www.we-online.com/redexpert/article/744774133?ad; ComponentLink2Description: Datasheet Link; ComponentLink2URL: https://www.we-online.com/redexpert/spec/744774133?ad; Mount: Surface Mount; Min Operating Temperature: -40 °C; Max Operating Temperature: 125 °C; Packaging: Tape and Reel; Length: 5.8 mm; Width: 5.2 mm; Height: 4.5 mm
footprint WE-PD2_5848
simulation model 5848_744774133_33u
pins: 1, 2

## 744774139
designator L?, comment 39 µH, 0.94 A
WE-PD2 SMT Power Inductor, size 5848, 39 µH, 0.94 A, 0.215 Ω; Manufacturer Part Number: 744774139; Manufacturer: Wurth Elektronik; Case/Size Code: 5848; DC Resistance Max: 0.215 Ω; Inductance: 39 µH; Rated Current: 0.94 A; Saturation Current @ 10%: 1.1 A; Self Resonant Frequency: 12 MHz; Category: Power Inductors; Match Code: WE-PD2; ComponentLink1Description: Website Link; ComponentLink1URL: https://www.we-online.com/redexpert/article/744774139?ad; ComponentLink2Description: Datasheet Link; ComponentLink2URL: https://www.we-online.com/redexpert/spec/744774139?ad; Mount: Surface Mount; Min Operating Temperature: -40 °C; Max Operating Temperature: 125 °C; Packaging: Tape and Reel; Length: 5.8 mm; Width: 5.2 mm; Height: 4.5 mm
footprint WE-PD2_5848
simulation model 5848_744774139_39u
pins: 1, 2

## 744774147
designator L?, comment 47 µH, 0.86 A
WE-PD2 SMT Power Inductor, size 5848, 47 µH, 0.86 A, 0.26 Ω; Manufacturer Part Number: 744774147; Manufacturer: Wurth Elektronik; Case/Size Code: 5848; DC Resistance Max: 0.26 Ω; Inductance: 47 µH; Rated Current: 0.86 A; Saturation Current @ 10%: 1 A; Self Resonant Frequency: 11.5 MHz; Category: Power Inductors; Match Code: WE-PD2; ComponentLink1Description: Website Link; ComponentLink1URL: https://www.we-online.com/redexpert/article/744774147?ad; ComponentLink2Description: Datasheet Link; ComponentLink2URL: https://www.we-online.com/redexpert/spec/744774147?ad; Mount: Surface Mount; Min Operating Temperature: -40 °C; Max Operating Temperature: 125 °C; Packaging: Tape and Reel; Length: 5.8 mm; Width: 5.2 mm; Height: 4.5 mm
footprint WE-PD2_5848
simulation model 5848_744774147_47u
pins: 1, 2

## 744774156
designator L?, comment 56 µH, 0.77 A
WE-PD2 SMT Power Inductor, size 5848, 56 µH, 0.77 A, 0.298 Ω; Manufacturer Part Number: 744774156; Manufacturer: Wurth Elektronik; Case/Size Code: 5848; DC Resistance Max: 0.298 Ω; Inductance: 56 µH; Rated Current: 0.77 A; Saturation Current @ 10%: 0.9 A; Self Resonant Frequency: 10 MHz; Category: Power Inductors; Match Code: WE-PD2; ComponentLink1Description: Website Link; ComponentLink1URL: https://www.we-online.com/redexpert/article/744774156?ad; ComponentLink2Description: Datasheet Link; ComponentLink2URL: https://www.we-online.com/redexpert/spec/744774156?ad; Mount: Surface Mount; Min Operating Temperature: -40 °C; Max Operating Temperature: 125 °C; Packaging: Tape and Reel; Length: 5.8 mm; Width: 5.2 mm; Height: 4.5 mm
footprint WE-PD2_5848
simulation model 5848_744774156_56u
pins: 1, 2

## 744774168
designator L?, comment 68 µH, 0.64 A
WE-PD2 SMT Power Inductor, size 5848, 68 µH, 0.64 A, 0.313 Ω; Manufacturer Part Number: 744774168; Manufacturer: Wurth Elektronik; Case/Size Code: 5848; DC Resistance Max: 0.313 Ω; Inductance: 68 µH; Rated Current: 0.64 A; Saturation Current @ 10%: 0.86 A; Self Resonant Frequency: 10 MHz; Category: Power Inductors; Match Code: WE-PD2; ComponentLink1Description: Website Link; ComponentLink1URL: https://www.we-online.com/redexpert/article/744774168?ad; ComponentLink2Description: Datasheet Link; ComponentLink2URL: https://www.we-online.com/redexpert/spec/744774168?ad; Mount: Surface Mount; Min Operating Temperature: -40 °C; Max Operating Temperature: 125 °C; Packaging: Tape and Reel; Length: 5.8 mm; Width: 5.2 mm; Height: 4.5 mm
footprint WE-PD2_5848
simulation model 5848_744774168_68u
pins: 1, 2

## 744774182
designator L?, comment 82 µH, 0.6 A
WE-PD2 SMT Power Inductor, size 5848, 82 µH, 0.6 A, 0.475 Ω; Manufacturer Part Number: 744774182; Manufacturer: Wurth Elektronik; Case/Size Code: 5848; DC Resistance Max: 0.475 Ω; Inductance: 82 µH; Rated Current: 0.6 A; Saturation Current @ 10%: 0.72 A; Self Resonant Frequency: 8 MHz; Category: Power Inductors; Match Code: WE-PD2; ComponentLink1Description: Website Link; ComponentLink1URL: https://www.we-online.com/redexpert/article/744774182?ad; ComponentLink2Description: Datasheet Link; ComponentLink2URL: https://www.we-online.com/redexpert/spec/744774182?ad; Mount: Surface Mount; Min Operating Temperature: -40 °C; Max Operating Temperature: 125 °C; Packaging: Tape and Reel; Length: 5.8 mm; Width: 5.2 mm; Height: 4.5 mm
footprint WE-PD2_5848
simulation model 5848_744774182_82u
pins: 1, 2

## 744774212
designator L?, comment 120 µH, 0.49 A
WE-PD2 SMT Power Inductor, size 5848, 120 µH, 0.49 A, 0.66 Ω; Manufacturer Part Number: 744774212; Manufacturer: Wurth Elektronik; Case/Size Code: 5848; DC Resistance Max: 0.66 Ω; Inductance: 120 µH; Rated Current: 0.49 A; Saturation Current @ 10%: 0.63 A; Self Resonant Frequency: 7 MHz; Category: Power Inductors; Match Code: WE-PD2; ComponentLink1Description: Website Link; ComponentLink1URL: https://www.we-online.com/redexpert/article/744774212?ad; ComponentLink2Description: Datasheet Link; ComponentLink2URL: https://www.we-online.com/redexpert/spec/744774212?ad; Mount: Surface Mount; Min Operating Temperature: -40 °C; Max Operating Temperature: 125 °C; Packaging: Tape and Reel; Length: 5.8 mm; Width: 5.2 mm; Height: 4.5 mm
footprint WE-PD2_5848
simulation model 5848_744774212_120u
pins: 1, 2

## 744774215
designator L?, comment 150 µH, 0.46 A
WE-PD2 SMT Power Inductor, size 5848, 150 µH, 0.46 A, 0.72 Ω; Manufacturer Part Number: 744774215; Manufacturer: Wurth Elektronik; Case/Size Code: 5848; DC Resistance Max: 0.72 Ω; Inductance: 150 µH; Rated Current: 0.46 A; Saturation Current @ 10%: 0.54 A; Self Resonant Frequency: 6.5 MHz; Category: Power Inductors; Match Code: WE-PD2; ComponentLink1Description: Website Link; ComponentLink1URL: https://www.we-online.com/redexpert/article/744774215?ad; ComponentLink2Description: Datasheet Link; ComponentLink2URL: https://www.we-online.com/redexpert/spec/744774215?ad; Mount: Surface Mount; Min Operating Temperature: -40 °C; Max Operating Temperature: 125 °C; Packaging: Tape and Reel; Length: 5.8 mm; Width: 5.2 mm; Height: 4.5 mm
footprint WE-PD2_5848
simulation model 5848_744774215_150u
pins: 1, 2

## 744774218
designator L?, comment 180 µH, 0.42 A
WE-PD2 SMT Power Inductor, size 5848, 180 µH, 0.42 A, 0.85 Ω; Manufacturer Part Number: 744774218; Manufacturer: Wurth Elektronik; Case/Size Code: 5848; DC Resistance Max: 0.85 Ω; Inductance: 180 µH; Rated Current: 0.42 A; Saturation Current @ 10%: 0.5 A; Self Resonant Frequency: 5.8 MHz; Category: Power Inductors; Match Code: WE-PD2; ComponentLink1Description: Website Link; ComponentLink1URL: https://www.we-online.com/redexpert/article/744774218?ad; ComponentLink2Description: Datasheet Link; ComponentLink2URL: https://www.we-online.com/redexpert/spec/744774218?ad; Mount: Surface Mount; Min Operating Temperature: -40 °C; Max Operating Temperature: 125 °C; Packaging: Tape and Reel; Length: 5.8 mm; Width: 5.2 mm; Height: 4.5 mm
footprint WE-PD2_5848
simulation model 5848_744774218_180u
pins: 1, 2

## 744774222
designator L?, comment 220 µH, 0.42 A
WE-PD2 SMT Power Inductor, size 5848, 220 µH, 0.42 A, 0.945 Ω; Manufacturer Part Number: 744774222; Manufacturer: Wurth Elektronik; Case/Size Code: 5848; DC Resistance Max: 0.945 Ω; Inductance: 220 µH; Rated Current: 0.42 A; Saturation Current @ 10%: 0.47 A; Self Resonant Frequency: 5 MHz; Category: Power Inductors; Match Code: WE-PD2; ComponentLink1Description: Website Link; ComponentLink1URL: https://www.we-online.com/redexpert/article/744774222?ad; ComponentLink2Description: Datasheet Link; ComponentLink2URL: https://www.we-online.com/redexpert/spec/744774222?ad; Mount: Surface Mount; Min Operating Temperature: -40 °C; Max Operating Temperature: 125 °C; Packaging: Tape and Reel; Length: 5.8 mm; Width: 5.2 mm; Height: 4.5 mm
footprint WE-PD2_5848
simulation model 5848_744774222_220u
pins: 1, 2

## 744775112
designator L?, comment 12 µH, 2.18 A
WE-PD2 SMT Power Inductor, size 7850, 12 µH, 2.18 A, 0.042 Ω; Manufacturer Part Number: 744775112; Manufacturer: Wurth Elektronik; Case/Size Code: 7850; DC Resistance Max: 0.042 Ω; Inductance: 12 µH; Rated Current: 2.18 A; Saturation Current @ 10%: 2.2 A; Self Resonant Frequency: 26 MHz; Category: Power Inductors; Match Code: WE-PD2; ComponentLink1Description: Website Link; ComponentLink1URL: https://www.we-online.com/redexpert/article/744775112?ad; ComponentLink2Description: Datasheet Link; ComponentLink2URL: https://www.we-online.com/redexpert/spec/744775112?ad; Mount: Surface Mount; Min Operating Temperature: -40 °C; Max Operating Temperature: 125 °C; Packaging: Tape and Reel; Length: 7.8 mm; Width: 7 mm; Height: 4.95 mm
footprint WE-PD2_7850
simulation model 7850_744775112_12u
pins: 1, 2

## 744775115
designator L?, comment 15 µH, 1.93 A
WE-PD2 SMT Power Inductor, size 7850, 15 µH, 1.93 A, 0.044 Ω; Manufacturer Part Number: 744775115; Manufacturer: Wurth Elektronik; Case/Size Code: 7850; DC Resistance Max: 0.044 Ω; Inductance: 15 µH; Rated Current: 1.93 A; Saturation Current @ 10%: 2.23 A; Self Resonant Frequency: 20 MHz; Category: Power Inductors; Match Code: WE-PD2; ComponentLink1Description: Website Link; ComponentLink1URL: https://www.we-online.com/redexpert/article/744775115?ad; ComponentLink2Description: Datasheet Link; ComponentLink2URL: https://www.we-online.com/redexpert/spec/744775115?ad; Mount: Surface Mount; Min Operating Temperature: -40 °C; Max Operating Temperature: 125 °C; Packaging: Tape and Reel; Length: 7.8 mm; Width: 7 mm; Height: 4.95 mm
footprint WE-PD2_7850
simulation model 7850_744775115_15u
pins: 1, 2

## 744775118
designator L?, comment 18 µH, 1.89 A
WE-PD2 SMT Power Inductor, size 7850, 18 µH, 1.89 A, 0.053 Ω; Manufacturer Part Number: 744775118; Manufacturer: Wurth Elektronik; Case/Size Code: 7850; DC Resistance Max: 0.053 Ω; Inductance: 18 µH; Rated Current: 1.89 A; Saturation Current @ 10%: 2.14 A; Self Resonant Frequency: 19 MHz; Category: Power Inductors; Match Code: WE-PD2; ComponentLink1Description: Website Link; ComponentLink1URL: https://www.we-online.com/redexpert/article/744775118?ad; ComponentLink2Description: Datasheet Link; ComponentLink2URL: https://www.we-online.com/redexpert/spec/744775118?ad; Mount: Surface Mount; Min Operating Temperature: -40 °C; Max Operating Temperature: 125 °C; Packaging: Tape and Reel; Length: 7.8 mm; Width: 7 mm; Height: 4.95 mm
footprint WE-PD2_7850
simulation model 7850_744775118_18u
pins: 1, 2

## 744775122
designator L?, comment 22 µH, 1.76 A
WE-PD2 SMT Power Inductor, size 7850, 22 µH, 1.76 A, 0.065 Ω; Manufacturer Part Number: 744775122; Manufacturer: Wurth Elektronik; Case/Size Code: 7850; DC Resistance Max: 0.065 Ω; Inductance: 22 µH; Rated Current: 1.76 A; Saturation Current @ 10%: 1.81 A; Self Resonant Frequency: 17.5 MHz; Category: Power Inductors; Match Code: WE-PD2; ComponentLink1Description: Website Link; ComponentLink1URL: https://www.we-online.com/redexpert/article/744775122?ad; ComponentLink2Description: Datasheet Link; ComponentLink2URL: https://www.we-online.com/redexpert/spec/744775122?ad; Mount: Surface Mount; Min Operating Temperature: -40 °C; Max Operating Temperature: 125 °C; Packaging: Tape and Reel; Length: 7.8 mm; Width: 7 mm; Height: 4.95 mm
footprint WE-PD2_7850
simulation model 7850_744775122_22u
pins: 1, 2

## 744775127
designator L?, comment 27 µH, 1.48 A
WE-PD2 SMT Power Inductor, size 7850, 27 µH, 1.48 A, 0.074 Ω; Manufacturer Part Number: 744775127; Manufacturer: Wurth Elektronik; Case/Size Code: 7850; DC Resistance Max: 0.074 Ω; Inductance: 27 µH; Rated Current: 1.48 A; Saturation Current @ 10%: 1.62 A; Self Resonant Frequency: 15.5 MHz; Category: Power Inductors; Match Code: WE-PD2; ComponentLink1Description: Website Link; ComponentLink1URL: https://www.we-online.com/redexpert/article/744775127?ad; ComponentLink2Description: Datasheet Link; ComponentLink2URL: https://www.we-online.com/redexpert/spec/744775127?ad; Mount: Surface Mount; Min Operating Temperature: -40 °C; Max Operating Temperature: 125 °C; Packaging: Tape and Reel; Length: 7.8 mm; Width: 7 mm; Height: 4.95 mm
footprint WE-PD2_7850
simulation model 7850_744775127_27u
pins: 1, 2

## 744775133
designator L?, comment 33 µH, 1.35 A
WE-PD2 SMT Power Inductor, size 7850, 33 µH, 1.35 A, 0.088 Ω; Manufacturer Part Number: 744775133; Manufacturer: Wurth Elektronik; Case/Size Code: 7850; DC Resistance Max: 0.088 Ω; Inductance: 33 µH; Rated Current: 1.35 A; Saturation Current @ 10%: 1.47 A; Self Resonant Frequency: 14.5 MHz; Category: Power Inductors; Match Code: WE-PD2; ComponentLink1Description: Website Link; ComponentLink1URL: https://www.we-online.com/redexpert/article/744775133?ad; ComponentLink2Description: Datasheet Link; ComponentLink2URL: https://www.we-online.com/redexpert/spec/744775133?ad; Mount: Surface Mount; Min Operating Temperature: -40 °C; Max Operating Temperature: 125 °C; Packaging: Tape and Reel; Length: 7.8 mm; Width: 7 mm; Height: 4.95 mm
footprint WE-PD2_7850
simulation model 7850_744775133_33u
pins: 1, 2

## 744775139
designator L?, comment 39 µH, 1.25 A
WE-PD2 SMT Power Inductor, size 7850, 39 µH, 1.25 A, 0.116 Ω; Manufacturer Part Number: 744775139; Manufacturer: Wurth Elektronik; Case/Size Code: 7850; DC Resistance Max: 0.116 Ω; Inductance: 39 µH; Rated Current: 1.25 A; Saturation Current @ 10%: 1.33 A; Self Resonant Frequency: 12.5 MHz; Category: Power Inductors; Match Code: WE-PD2; ComponentLink1Description: Website Link; ComponentLink1URL: https://www.we-online.com/redexpert/article/744775139?ad; ComponentLink2Description: Datasheet Link; ComponentLink2URL: https://www.we-online.com/redexpert/spec/744775139?ad; Mount: Surface Mount; Min Operating Temperature: -40 °C; Max Operating Temperature: 125 °C; Packaging: Tape and Reel; Length: 7.8 mm; Width: 7 mm; Height: 4.95 mm
footprint WE-PD2_7850
simulation model 7850_744775139_39u
pins: 1, 2